# Altium schematic symbol library ASSY_PART.SCHLIB: 1 symbol
Pins are listed as number, name and electrical type; pins without a type are passive.

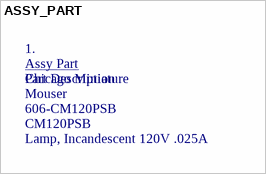
[diagram p0: symbol ASSY_PART]

## ASSY_PART
designator 1., comment Part Description  Manufacturer: Chicago Miniature  Supplier 1: Mouser  Supplier Part Number 1: 606-CM120PSB  Manufacturer P/N: CM120PSB  Type: Lamp, Incandescent 120V .025A  (mechanical)
Top Assembly; CMW P/N: *; Value: *
2 alternate drawings of the same symbol
text: Assy Part